# EAGLE library part JST_SH_5-PIN_HORI (library tecsmith-jst)
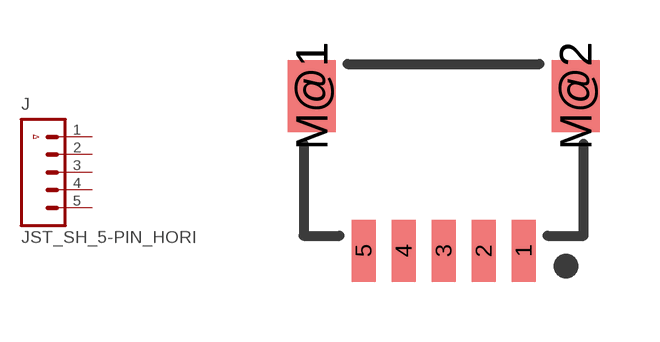
[diagram p4: symbol with the pads of JST-SH-5-SMD-HORI-1.0MM; footprint JST-SH-5-SMD-HORI-1.0MM]

Designator prefix J

## JST_SH_5-PIN_HORI  [JST-SH-5-SMD-HORI-1.0MM]
1  1  pas
2  2  pas
3  3  pas
4  4  pas
5  5  pas
M@1  M  pas
M@2  M  pas

## Footprint JST-SH-5-SMD-HORI-1.0MM (pad centres in mm)
smd 0.6 x 1.55: 1 2,-2.775; 2 1,-2.775; 3 0,-2.775; 4 -1,-2.775; 5 -2,-2.775
smd 1.2 x 1.8: M@1 -3.3,1.1; M@2 3.3,1.1